# EAGLE library part HAUPTSCHUETZ_3-POL_HILFSKONTAKT_13-14 (library e-schuetze-relais)
Hauptschütz 3-pol. mit Hilfskontakt-Schließer
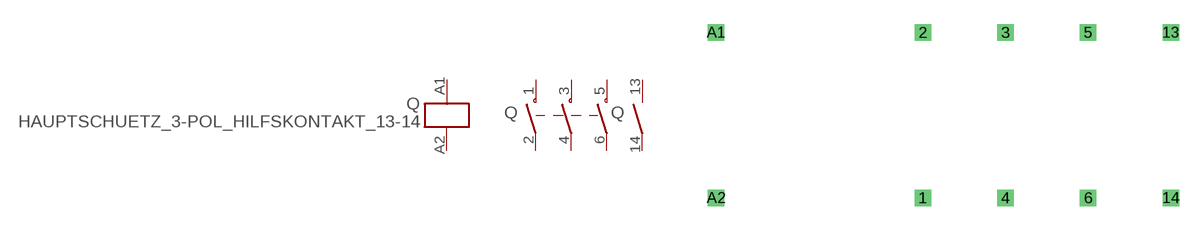
[diagram p14: symbol with the pads of HAUPTSCHUETZ_3-POL+HILFSKONTAKT_13-14; footprint HAUPTSCHUETZ_3-POL+HILFSKONTAKT_13-14]

Designator prefix Q; gates 1=SPULE 3=SCHLIESSER G$1=SCHLIESSER_HAUPTSCHUETZ_3-POL

## HAUPTSCHUETZ_3-POL_HILFSKONTAKT_13-14  [HAUPTSCHUETZ_3-POL+HILFSKONTAKT_13-14]
1  G$1:1  pas
2  G$1:2  pas
3  G$1:3  pas
4  G$1:4  pas
5  G$1:5  pas
6  G$1:6  pas
13  3:3  pas
14  3:4  pas
A1  1:A1  in
A2  1:A2  in

## Footprint HAUPTSCHUETZ_3-POL+HILFSKONTAKT_13-14 (pad centres in mm)
Dummy
drill 0.5 pad 1 square: 1 2.54,-7.62; 2 2.54,2.54; 3 7.62,2.54; 4 7.62,-7.62; 5 12.7,2.54; 6 12.7,-7.62; 13 17.78,2.54; 14 17.78,-7.62; A1 -10.16,2.54; A2 -10.16,-7.62